# EAGLE library part TDSG3150-M (library Custom)
Single Digit LED Numeric Display (anode common) Source: ROHM .. la-1401dn.pdf
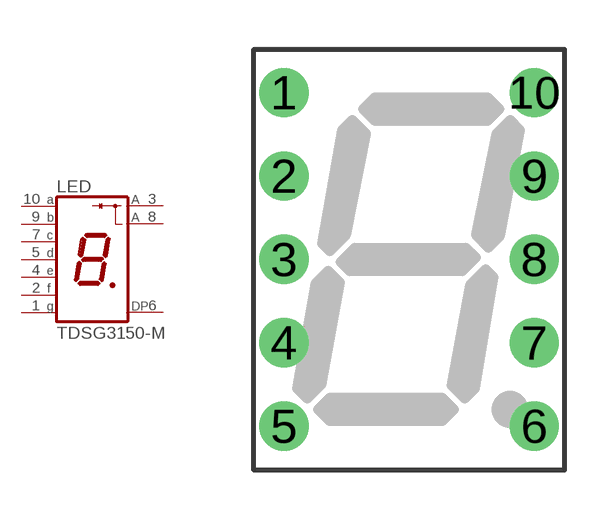
[diagram p45: symbol with the pads of LA-401; footprint LA-401]

Designator prefix LED

## TDSG3150-MA (OC_FARNELL: unknown; OC_NEWARK: unknown), TDSG3150-MB (OC_FARNELL: unknown; OC_NEWARK: unknown), TDSG3150-ME (OC_FARNELL: unknown; OC_NEWARK: unknown), TDSG3150-MM (OC_FARNELL: unknown; OC_NEWARK: unknown), TDSG3150-MV (OC_FARNELL: unknown; OC_NEWARK: unknown), TDSG3150-MX (OC_FARNELL: unknown; OC_NEWARK: unknown)  [LA-401]
1  G  pas
2  F  pas
3  A  pas
4  E  pas
5  D  pas
6  DP  pas
7  C  pas
8  A  pas
9  B  pas
10  A  pas

## Footprint LA-401 (pad centres in mm)
Single Digit LED Numeric Display 10.16 mm Source: ROHM .. la-401dn.pdf
drill 0.9 pad 1.5: 1 -3.81,5.08; 2 -3.81,2.54; 3 -3.81,0; 4 -3.81,-2.54; 5 -3.81,-5.08; 6 3.81,-5.08; 7 3.81,-2.54; 8 3.81,0; 9 3.81,2.54; 10 3.81,5.08